# Altium schematic symbol library AnalogDevices.SchLib: 130 symbols (part 5 of 5)
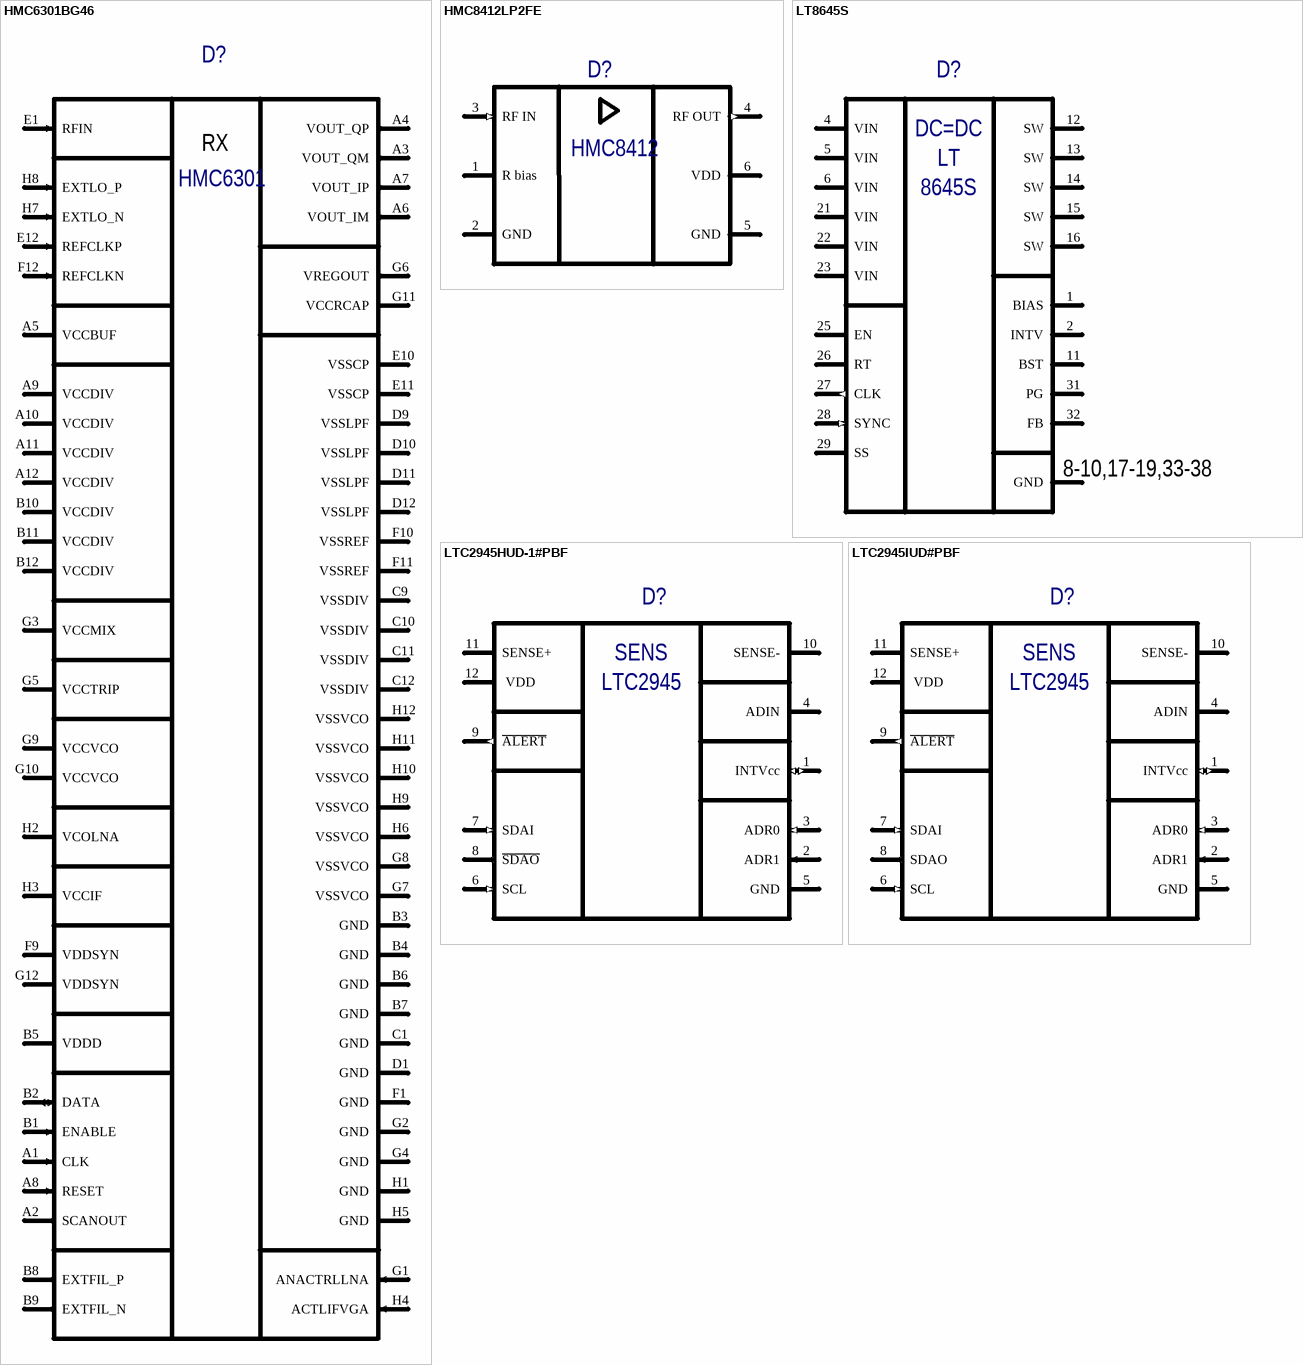
[diagram p25: symbols HMC6301BG46 to LTC2945IUD#PBF]

## LTC2945HUD-1#PBF
designator D?  (value not drawn)
Wide Range I2C Power Monitor; Manufacturer: Analog Devices; Type: Микросхема; SymAuthor: Гришин Е.; ManufacturerPartNumber: LTC2945HUD-1#PBF; Package: 12-Lead (3mm x 3mm) Plastic QFN
footprint QFN50P300X300X80_HS165X165-13N (QFN, 12-Leads, Body 3,0x3,0mm, Pitch 0,50mm, Thermal Pad 1,65x1,65mm, IPC Medium Density)
pins: 1 INTVcc (io) "Internal Low Voltage Supply Input/Output", 2 ADR1 (in) "I2C Device Adress Inputs", 3 ADR0 (in) "I2C Device Adress Inputs", 4 ADIN "ADC Input", 5 GND (power) "Device Ground", 6 SCL (in) "I2C Bus Clock Input", 7 SDAI (in) "I2C Bus Data Input", 8 ~{SDAO} (out) "I2C Bus Data Output", 9 ~{ALERT} (out) "Fault Alert Output", 10 SENSE- (power) "Current Sense Input. Connect an external sense resistor between SENSE+ and SENSE-", 11 SENSE+ (power) "Supply Voltage and Current Sense Input", 12  VDD (power) "High Voltage Supply Input", EPAD (power) hidden to GND "Exposed Pad connected to GND"
text: SENS; LTC2945

## LTC2945IUD#PBF
designator D?  (value not drawn)
Wide Range I2C Power Monitor; Manufacturer: Analog Devices; Type: Микросхема; SymAuthor: Приходченко А.И.; ManufacturerPartNumber: LTC2945IUD#PBF; Package: 12-Lead (3mm x 3mm) Plastic QFN
footprint QFN50P300X300X80_HS165X165-13N (QFN, 12-Leads, Body 3,0x3,0mm, Pitch 0,50mm, Thermal Pad 1,65x1,65mm, IPC Medium Density)
pins: 1 INTVcc (io) "Internal Low Voltage Supply Input/Output", 2 ADR1 (in) "I2C Device Adress Inputs", 3 ADR0 (in) "I2C Device Adress Inputs", 4 ADIN "ADC Input", 5 GND (power) "Device Ground", 6 SCL (in) "I2C Bus Clock Input", 7 SDAI (in) "I2C Bus Data Input", 8 SDAO (out) "I2C Bus Data Output", 9 ~{ALERT} (out) "Fault Alert Output", 10 SENSE- (power) "Current Sense Input. Connect an external sense resistor between SENSE+ and SENSE-", 11 SENSE+ (power) "Supply Voltage and Current Sense Input", 12  VDD (power) "High Voltage Supply Input", EPAD (power) hidden to GND "Exposed Pad connected to GND"
text: SENS; LTC2945

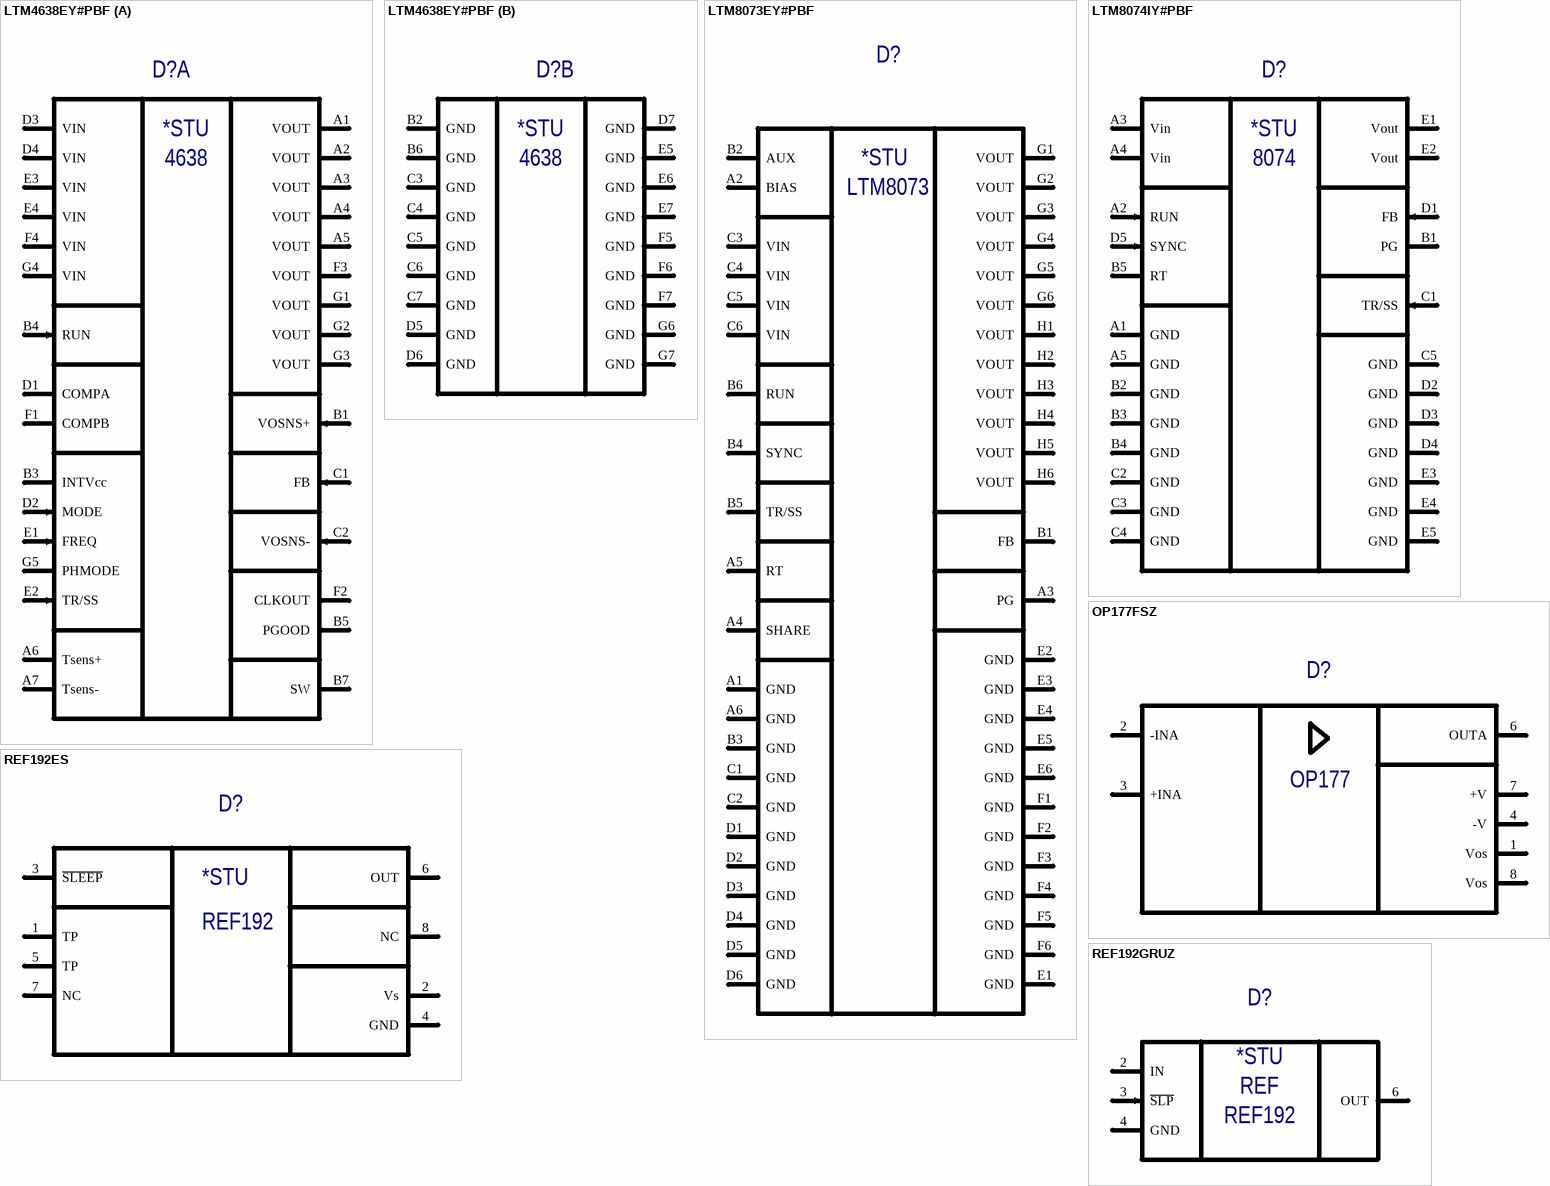
[diagram p21: symbols LTM4638EY#PBF to REF192GRUZ]

## LTM4638EY#PBF
designator D?  (value not drawn)
20Vin, 15A Step-Down DC/DC µModule Regulator; Manufacturer: Linear Technology; Type: Микросхема; SymAuthor: Ерешко П.А.; Package: BGA-49; ManufacturerPartNumber: LTM4638EY#PBF
footprint BGA49C80P7X7_625X625X536 (BGA, 49-Leads, Body 6,25x6,25mmx5,36mm, Pitch 0,80mm)
part A pins: A1 VOUT (power) "Power Output Pins", A2 VOUT (power) "Power Output Pins", A3 VOUT (power) "Power Output Pins", A4 VOUT (power) "Power Output Pins", A5 VOUT (power) "Power Output Pins", A6 Tsens+ "Temperature Monitor", A7 Tsens- "Temperature Monitor", B1 VOSNS+ (in) "Input to the Remote Sense Amplifier", B3 INTVcc (power) "Internal 3.3V LDO", B4 RUN (in) "Run Control Pin", B5 PGOOD (out) "Output Voltage Power Good Indicator", B7 SW "Switching node of the circuit is used for testing purposes", C1 FB (in) "The Negative Input of the Error Amplifier", C2 VOSNS- (in) "Input to the Remote Sense Amplifier", D1 COMPA "Current Control Threshold and Error Amplifier Compensation Point", D2 MODE (in) "Discontinuous Mode Select Pin and External Synchronization Input to Phase Detector", D3 VIN (power) "Power Input Pins", D4 VIN (power) "Power input pins", E1 FREQ (in) "Set the operating frequency", E2 TR/SS (in) "Output Voltage Tracking Pin and Soft-Start", E3 VIN (power) "Power input pins", E4 VIN (power) "Power input pins", F1 COMPB "Internal Loop Compensation Networks", F2 CLKOUT (out) "Output Clock  Signal for PolyPhase Operation", F3 VOUT (power) "Power Output Pins", F4 VIN (power) "Power input pins", G1 VOUT (power) "Power Output Pins", G2 VOUT (power) "Power Output Pins", G3 VOUT (power) "Power Output Pins", G4 VIN (power) "Power input pins", G5 PHMODE "Control Input to the Phase Selector"
part B pins: B2 GND (power) "Power Ground Pins", B6 GND (power) "Power Ground Pins", C3 GND (power) "Power Ground Pins", C4 GND (power) "Power Ground Pins", C5 GND (power) "Power Ground Pins", C6 GND (power) "Power Ground Pins", C7 GND (power) "Power Ground Pins", D5 GND (power) "Power Ground Pins", D6 GND (power) "Power Ground Pins", D7 GND (power) "Power Ground Pins", E5 GND (power) "Power Ground Pins", E6 GND (power) "Power Ground Pins", E7 GND (power) "Power Ground Pins", F5 GND (power) "Power Ground Pins", F6 GND (power) "Power Ground Pins", F7 GND (power) "Power Ground Pins", G6 GND (power) "Power Ground Pins", G7 GND (power) "Power Ground Pins"
part A text: *STU; 4638
part B text: *STU; 4638

## LTM8073EY#PBF
designator D?  (value not drawn)
Стабилизатор напряжений; Manufacturer: Analog Devices; Type: Микросхема; ManufacturerPartNumber: LTM8073EY#PBF; Package: *
footprint BGA48C100P6X8_625X900X352 (BGA, 48-Leads, Body 6,25x9,00mmx3,52mm, Pitch 1,00mm)
pins: A1 GND (power), A2 BIAS, A3 PG, A4 SHARE, A5 RT, A6 GND (power), B1 FB, B2 AUX, B3 GND (power), B4 SYNC, B5 TR/SS, B6 RUN, C1 GND (power), C2 GND (power), C3 VIN (power), C4 VIN (power), C5 VIN (power), C6 VIN, D1 GND (power), D2 GND (power), D3 GND (power), D4 GND (power), D5 GND (power), D6 GND (power), E1 GND (power), E2 GND (power), E3 GND (power), E4 GND (power), E5 GND (power), E6 GND (power), F1 GND (power), F2 GND (power), F3 GND (power), F4 GND (power), F5 GND (power), F6 GND (power), G1 VOUT (power), G2 VOUT (power), G3 VOUT (power), G4 VOUT (power), G5 VOUT (power), G6 VOUT (power), H1 VOUT (power), H2 VOUT (power), H3 VOUT (power), H4 VOUT (power), H5 VOUT (power), H6 VOUT (power)
text: *STU; LTM8073

## LTM8074IY#PBF
designator D?  (value not drawn)
40Vin, 1.2A Silent Switcher µModule Regulator; Manufacturer: Analog Devices; Type: Микросхема; Package: BGA-25; ManufacturerPartNumber: LTM8074IY#PBF
footprint BGA25C65P5X5_400X400X198 (BGA, 25-Leads, 5 columns X 5 rows, Body 4,00x4,00mmx1,98mm, Pitch 0,65mm)
pins: A1 GND (power) "Power Ground", A2 RUN (in) "Pull the RUN pin below 0.9V to shut down", A3 Vin (power) "Vin supplies current to the LTM8074’s internal regulator and to the internal power switches", A4 Vin (power) "Vin supplies current to the LTM8074’s internal regulator and to the internal power switches", A5 GND (power) "Power Ground", B1 PG (oc) "Output Power Good", B2 GND (power) "Power Ground", B3 GND (power) "Power Ground", B4 GND (power) "Power Ground", B5 RT "The RT pin is used to program the switching", C1 TR/SS (in) "The TR/SS pin is used to provide a softstart or tracking function", C2 GND (power) "Power Ground", C3 GND (power) "Power Ground", C4 GND (power) "Power Ground", C5 GND (power) "Power Ground", D1 FB (in) "The LTM8074 regulates its FB pin to 0.774V", D2 GND (power) "Power Ground", D3 GND (power) "Power Ground", D4 GND (power) "Power Ground", D5 SYNC (in) "External clock synchronization input and", E1 Vout (power) "Power Output", E2 Vout (power) "Power Output", E3 GND (power) "Power Ground", E4 GND (power) "Power Ground", E5 GND (power) "Power Ground"
text: *STU; 8074

## OP177FSZ
designator D?  (value not drawn)
Ultraprecision Operational Amplifier; Manufacturer: Analog Devices; Type: Микросхема; BCPId: *; Name: *; Package: R-8; ManufacturerPartNumber: OP177FSZ
footprint SOIC127P600-8M (SOIC, 8-Leads, Body 4.9x3.9mm, Pitch 1.27mm, IPC Low Density)
pins: 1 Vos, 2 -INA, 3 +INA, 4 -V, 5 NC hidden, 6 OUTA, 7 +V, 8 Vos
text: OP177

## REF192ES
designator D?  (value not drawn)
Источник опорного напряжения 2,5 В 30 мА; Manufacturer: Analog Devices; Type: Микросхема; BCPId: *; ManufacturerPartNumber: REF192ES; Package: R-8
footprint SOIC127P600-8M (SOIC, 8-Leads, Body 4.9x3.9mm, Pitch 1.27mm, IPC Low Density)
pins: 1 TP, 2 Vs, 3 ~{SLEEP}, 4 GND, 5 TP, 6 OUT, 7 NC, 8 NC
text: *STU; REF192

## REF192GRUZ
designator D?  (value not drawn)
Источник опорного напряжения 2,5 В 30 мА; Manufacturer: Analog Devices; Type: Микросхема; SymAuthor: Семенов В.С,; BCPId: *; ManufacturerPartNumber: REF192GRUZ; Package: RU-8
footprint TSOP65P640X120-8N (TSOP, 8-Leads, Body 6,6x4,5mm (max), Pitch 0,65mm, IPC Medium Density)
pins: 2 IN (power) "Входное питание", 3 ~{SLP} (in) "Инверсный вход установки спящего режима", 4 GND (power) "Земля", 6 OUT (power) "Выходное стабилизированное напряжение 2,5 В"
text: *STU; REF; REF192